# Altium footprint library LED_CREE_1.PcbLib: 1 footprints
Each footprint in its own frame and in the unit in brackets; x right, y up, seen from the top. Pads: shape width x height; smd on the part's side, far side on the other; paste and mask are expansions set on the pad; w line width, h text height; cw(c..) or ccw(c..) is an arc to the next point about the centre after c.
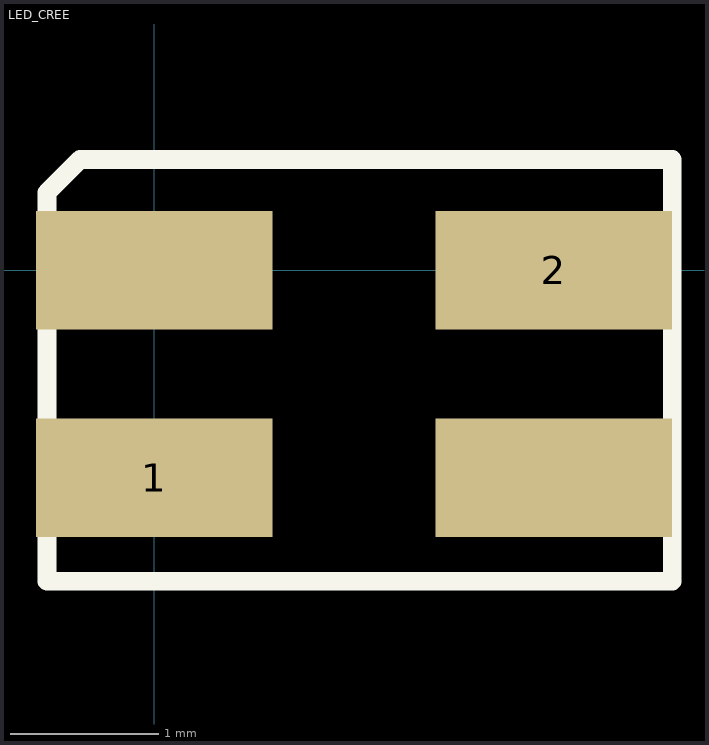
[diagram p0: the footprint, top view; thin cyan lines are the x and y axes]

## LED_CREE [mm]
pads (4):
  rect 1.6x0.8 smd: 1(0,-1.4) 2(2.7,0) ""(0,0) ""(2.7,-1.4)
Top Overlay:
  lines w0.127: -0.725,-2.1 -0.725,0.525 -0.5,0.75 3.5,0.75 3.5,-2.1 -0.725,-2.1